# Altium integrated library DFE252012F-4R7M_P2.IntLib: 1 symbol
Pins are listed as number, name and electrical type; pins without a type are passive.

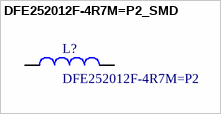
[diagram p0: symbol DFE252012F-4R7M=P2_SMD]

## DFE252012F-4R7M=P2_SMD
designator L?, comment DFE252012F-4R7M=P2
4.7 µH Shielded - Inductor 1.5 A 190mOhm Max 1008 (2520 Metric); MP: DFE252012F-6R8M=P2; Package: None; Price: None; Value: *; Availability: Unavailable
footprint INDC2520X120N
pins: 1, 2